# Altium footprint library XHCL.PcbLib: 31 footprints (part 2 of 2)
Each footprint in its own frame and in the unit in brackets; x right, y up, seen from the top. Pads: shape width x height; smd on the part's side, far side on the other; paste and mask are expansions set on the pad; w line width, h text height; cw(c..) or ccw(c..) is an arc to the next point about the centre after c.
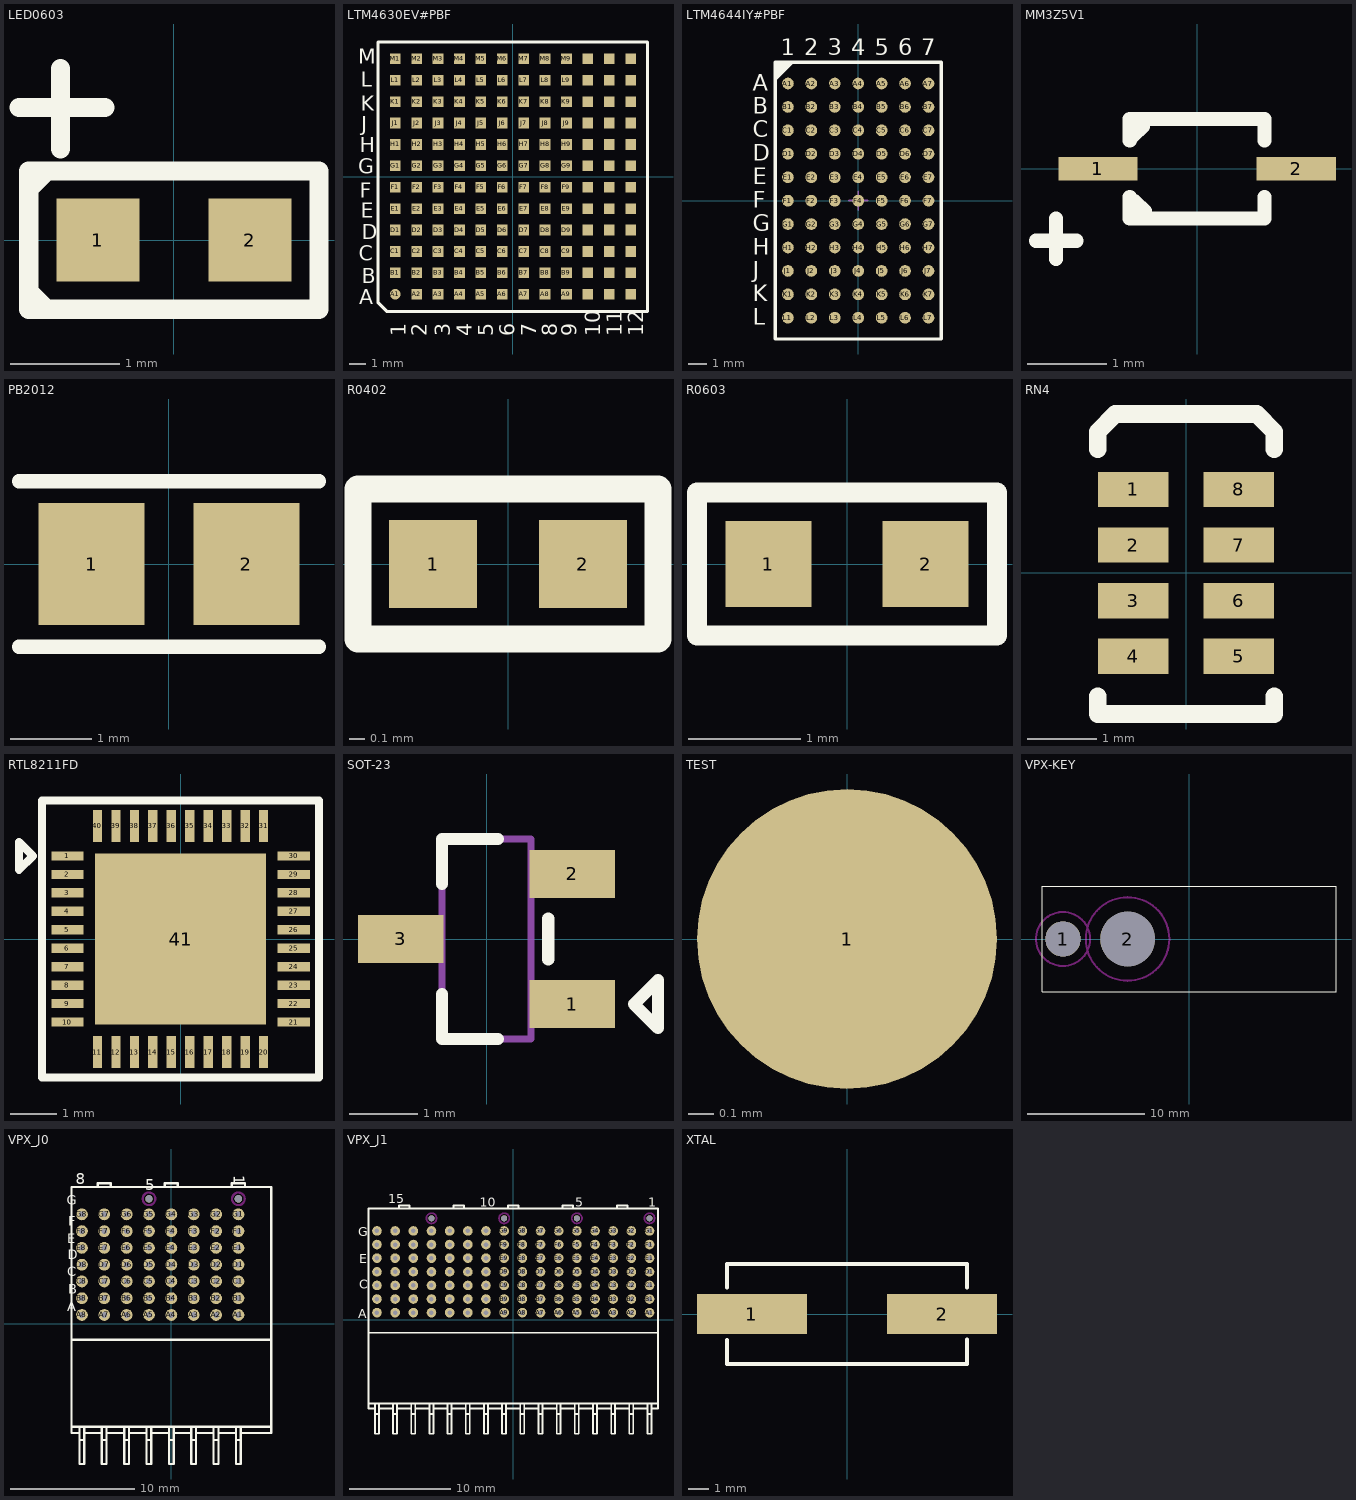
[diagram p1: the footprints below, top view; thin cyan lines are the x and y axes]

## LED0603 [mil]
height 43.31
pads (2):
  rect 30x30 smd: 1(-27.5,0) 2(27.5,0)
Top Overlay:
  lines w7: -56,48 -25,48 ; -52.5,-18.5 -46.49,-24.51 ; -52.01,18.99 -46,25 ; -41,33 -41,62 ; -52.5,-25 52.5,-25 52.5,25 -52.5,25 -52.5,-25

## LTM4630EV#PBF [mm]
height 1.1
pads (144):
  round 0.635 smd: A1(-6.985,-6.985)
  rect 0.635x0.635 smd: A2(-5.715,-6.985) A3(-4.445,-6.985) A4(-3.175,-6.985) A5(-1.905,-6.985) A6(-0.635,-6.985) A7(0.635,-6.985) A8(1.905,-6.985) A9(3.175,-6.985) A10(4.445,-6.985) A11(5.715,-6.985) A12(6.985,-6.985) B1(-6.985,-5.715) B2(-5.715,-5.715) B3(-4.445,-5.715) B4(-3.175,-5.715) B5(-1.905,-5.715) B6(-0.635,-5.715) B7(0.635,-5.715) B8(1.905,-5.715) B9(3.175,-5.715) B10(4.445,-5.715) B11(5.715,-5.715) B12(6.985,-5.715) C1(-6.985,-4.445) C2(-5.715,-4.445) C3(-4.445,-4.445) C4(-3.175,-4.445) C5(-1.905,-4.445) C6(-0.635,-4.445) C7(0.635,-4.445) C8(1.905,-4.445) C9(3.175,-4.445) C10(4.445,-4.445) C11(5.715,-4.445) C12(6.985,-4.445) D1(-6.985,-3.175) D2(-5.715,-3.175) D3(-4.445,-3.175) D4(-3.175,-3.175) D5(-1.905,-3.175) D6(-0.635,-3.175) D7(0.635,-3.175) D8(1.905,-3.175) D9(3.175,-3.175) D10(4.445,-3.175) D11(5.715,-3.175) D12(6.985,-3.175) E1(-6.985,-1.905) E2(-5.715,-1.905) E3(-4.445,-1.905) E4(-3.175,-1.905) E5(-1.905,-1.905) E6(-0.635,-1.905) E7(0.635,-1.905) E8(1.905,-1.905) E9(3.175,-1.905) E10(4.445,-1.905) E11(5.715,-1.905) E12(6.985,-1.905) F1(-6.985,-0.635) F2(-5.715,-0.635) F3(-4.445,-0.635) F4(-3.175,-0.635) F5(-1.905,-0.635) F6(-0.635,-0.635) F7(0.635,-0.635) F8(1.905,-0.635) F9(3.175,-0.635) F10(4.445,-0.635) F11(5.715,-0.635) F12(6.985,-0.635) G1(-6.985,0.635) G2(-5.715,0.635) G3(-4.445,0.635) G4(-3.175,0.635) G5(-1.905,0.635) G6(-0.635,0.635) G7(0.635,0.635) G8(1.905,0.635) G9(3.175,0.635) G10(4.445,0.635) G11(5.715,0.635) G12(6.985,0.635) H1(-6.985,1.905) H2(-5.715,1.905) H3(-4.445,1.905) H4(-3.175,1.905) H5(-1.905,1.905) H6(-0.635,1.905) H7(0.635,1.905) H8(1.905,1.905) H9(3.175,1.905) H10(4.445,1.905) H11(5.715,1.905) H12(6.985,1.905) J1(-6.985,3.175) J2(-5.715,3.175) J3(-4.445,3.175) J4(-3.175,3.175) J5(-1.905,3.175) J6(-0.635,3.175) J7(0.635,3.175) J8(1.905,3.175) J9(3.175,3.175) J10(4.445,3.175) J11(5.715,3.175) J12(6.985,3.175) K1(-6.985,4.445) K2(-5.715,4.445) K3(-4.445,4.445) K4(-3.175,4.445) K5(-1.905,4.445) K6(-0.635,4.445) K7(0.635,4.445) K8(1.905,4.445) K9(3.175,4.445) K10(4.445,4.445) K11(5.715,4.445) K12(6.985,4.445) L1(-6.985,5.715) L2(-5.715,5.715) L3(-4.445,5.715) L4(-3.175,5.715) L5(-1.905,5.715) L6(-0.635,5.715) L7(0.635,5.715) L8(1.905,5.715) L9(3.175,5.715) L10(4.445,5.715) L11(5.715,5.715) L12(6.985,5.715) M1(-6.985,6.985) M2(-5.715,6.985) M3(-4.445,6.985) M4(-3.175,6.985) M5(-1.905,6.985) M6(-0.635,6.985) M7(0.635,6.985) M8(1.905,6.985) M9(3.175,6.985) M10(4.445,6.985) M11(5.715,6.985) M12(6.985,6.985)
Top Overlay:
  lines w0.178: -8,-7.493 -7.493,-8 8,-8 8,8 -8,8 -8,-7.493
  text "12" at 7.722,-9.474 h0.89
  text "11" at 6.452,-9.474 h0.89
  text "10" at 5.182,-9.474 h0.89
  text "9" at 3.785,-9.474 h0.89
  text "8" at 2.642,-9.474 h0.89
  text "7" at 1.372,-9.474 h0.89
  text "6" at 0.102,-9.474 h0.89
  text "1" at -6.375,-9.474 h0.89
  text "2" at -5.105,-9.474 h0.89
  text "5" at -1.168,-9.474 h0.89
  text "3" at -3.708,-9.474 h0.89
  text "4" at -2.438,-9.474 h0.89
  text "D" at -8.966,-3.734 h0.89
  text "M" at -9.195,6.706 h0.89
  text "C" at -9.144,-5.004 h0.89
  text "A" at -9.119,-7.588 h0.89
  text "B" at -8.966,-6.325 h0.89
  text "F" at -9.093,-1.245 h0.89
  text "E" at -9.017,-2.438 h0.89
  text "G" at -9.195,0.178 h0.89
  text "H" at -9.093,1.448 h0.89
  text "K" at -9.017,3.912 h0.89
  text "J" at -8.992,2.692 h0.89
  text "L" at -9.017,5.334 h0.89

## LTM4644IY#PBF [mm]
height 5.21
pads (77):
  round 0.635 smd: A1(-3.81,6.35) A2(-2.54,6.35) A3(-1.27,6.35) A4(0,6.35) A5(1.27,6.35) A6(2.54,6.35) A7(3.81,6.35) B1(-3.81,5.08) B2(-2.54,5.08) B3(-1.27,5.08) B4(0,5.08) B5(1.27,5.08) B6(2.54,5.08) B7(3.81,5.08) C1(-3.81,3.81) C2(-2.54,3.81) C3(-1.27,3.81) C4(0,3.81) C5(1.27,3.81) C6(2.54,3.81) C7(3.81,3.81) D1(-3.81,2.54) D2(-2.54,2.54) D3(-1.27,2.54) D4(0,2.54) D5(1.27,2.54) D6(2.54,2.54) D7(3.81,2.54) E1(-3.81,1.27) E2(-2.54,1.27) E3(-1.27,1.27) E4(0,1.27) E5(1.27,1.27) E6(2.54,1.27) E7(3.81,1.27) F1(-3.81,0) F2(-2.54,0) F3(-1.27,0) F4(0,0) F5(1.27,0) F6(2.54,0) F7(3.81,0) G1(-3.81,-1.27) G2(-2.54,-1.27) G3(-1.27,-1.27) G4(0,-1.27) G5(1.27,-1.27) G6(2.54,-1.27) G7(3.81,-1.27) H1(-3.81,-2.54) H2(-2.54,-2.54) H3(-1.27,-2.54) H4(0,-2.54) H5(1.27,-2.54) H6(2.54,-2.54) H7(3.81,-2.54) J1(-3.81,-3.81) J2(-2.54,-3.81) J3(-1.27,-3.81) J4(0,-3.81) J5(1.27,-3.81) J6(2.54,-3.81) J7(3.81,-3.81) K1(-3.81,-5.08) K2(-2.54,-5.08) K3(-1.27,-5.08) K4(0,-5.08) K5(1.27,-5.08) K6(2.54,-5.08) K7(3.81,-5.08) L1(-3.81,-6.35) L2(-2.54,-6.35) L3(-1.27,-6.35) L4(0,-6.35) L5(1.27,-6.35) L6(2.54,-6.35) L7(3.81,-6.35)
Top Overlay:
  region: -3.582,7.5 -4.5,6.582 -4.5,7.5
  lines w0.178: -4.5,6.582 -3.582,7.5 ; -4.5,-7.5 -4.5,7.5 4.5,7.5 4.5,-7.5 -4.5,-7.5
  text "A" at -5.715,5.969 h0.89
  text "B" at -5.715,4.699 h0.89
  text "C" at -5.715,3.429 h0.89
  text "D" at -5.715,2.159 h0.89
  text "E" at -5.715,0.889 h0.89
  text "F" at -5.715,-0.381 h0.89
  text "G" at -5.715,-1.651 h0.89
  text "H" at -5.715,-2.921 h0.89
  text "J" at -5.715,-4.191 h0.89
  text "K" at -5.715,-5.461 h0.89
  text "L" at -5.715,-6.731 h0.89
  text "1" at -4.191,7.874 h0.89
  text "2" at -2.921,7.874 h0.89
  text "3" at -1.651,7.874 h0.89
  text "4" at -0.381,7.874 h0.89
  text "5" at 0.889,7.874 h0.89
  text "6" at 2.159,7.874 h0.89
  text "7" at 3.429,7.874 h0.89
Mechanical 13:
  lines w0.1: -4.5,-7.5 -4.5,7.5 4.5,7.5 4.5,-7.5 -4.5,-7.5
Mechanical 15:
  lines w0.1: -0.5,0 0.5,0 ; 0,-0.5 0,0.5
3D body: height 5.21, standoff 0.7, extent -4.5,-7.5 4.5,7.5

## MM3Z5V1 [mm]
height 6
pads (2):
  rect 1x0.3 smd: 1(-1.25,0) 2(1.25,0)
Top Overlay:
  lines w0.178: -2.031,-0.907 -1.523,-0.907 ; -1.777,-1.135 -1.777,-0.627 ; -0.85,-0.356 -0.85,-0.625 0.85,-0.625 0.85,-0.356 ; -0.85,0.356 -0.85,0.625 0.85,0.625 0.85,0.356 ; -0.813,0.406 -0.686,0.533 ; -0.787,-0.406 -0.66,-0.533

## PB2012 [mm]
height 6
pads (2):
  rect 1.3x1.5 smd: 1(-0.95,0) 2(0.95,0)
Top Overlay:
  lines w0.178: -1.841,-1.019 1.842,-1.019 ; -1.841,1.019 1.842,1.019

## R0402 [mil]
pads (2):
  rect 23x23 smd: 1(-19.68,0) 2(19.68,0)
Top Overlay:
  lines w7: -39.37,-19.68 39.37,-19.68 39.37,19.68 -39.37,19.68 -39.37,-19.68

## R0603 [mil]
height 236.22
pads (2):
  rect 30x30 smd: 1(-27.5,0) 2(27.5,0)
Top Overlay:
  lines w7: -52.5,-25 -52.5,25 52.5,25 52.5,-25 -52.5,-25

## RN4 [mil]
height 236.22
pads (8):
  rect 40x20 smd mask+2: 1(-30,47.25) 2(-30,15.75) 3(-30,-15.75) 4(-30,-47.25) 5(30,-47.25) 6(30,-15.75) 7(30,15.75) 8(30,47.25)
Top Overlay:
  lines w10: -50,-70 -50,-80 50,-80 50,-70 ; -50,70 -50,80 -40,90 40,90 50,80 50,70

## RTL8211FD [mm]
height 6
pads (41):
  rect 0.7x0.2 smd mask+0.051: 1(-2.45,1.8) 2(-2.45,1.4) 3(-2.45,1) 4(-2.45,0.6) 5(-2.45,0.2) 6(-2.45,-0.2) 7(-2.45,-0.6) 8(-2.45,-1) 9(-2.45,-1.4) 10(-2.45,-1.8) 21(2.45,-1.8) 22(2.45,-1.4) 23(2.45,-1) 24(2.45,-0.6) 25(2.45,-0.2) 26(2.45,0.2) 27(2.45,0.6) 28(2.45,1) 29(2.45,1.4) 30(2.45,1.8)
  rect 0.2x0.7 smd mask+0.051: 11(-1.8,-2.45) 12(-1.4,-2.45) 13(-1,-2.45) 14(-0.6,-2.45) 15(-0.2,-2.45) 16(0.2,-2.45) 17(0.6,-2.45) 18(1,-2.45) 19(1.4,-2.45) 20(1.8,-2.45) 31(1.8,2.45) 32(1.4,2.45) 33(1,2.45) 34(0.6,2.45) 35(0.2,2.45) 36(-0.2,2.45) 37(-0.6,2.45) 38(-1,2.45) 39(-1.4,2.45) 40(-1.8,2.45)
  rect 3.7x3.7 smd mask+0.051: 41(0,0)
Top Overlay:
  lines w0.178: -3.5,1.5 -3.5,2.1 -3.2,1.8 -3.5,1.5 ; -3,-3 -3,3 3,3 3,-3 -3,-3

## SOT-23 [mm]
height 1.1
pads (3):
  rect 1.25x0.7 smd: 1(1.25,-0.95) 2(1.25,0.95) 3(-1.25,0)
Top Overlay:
  lines w0.178: -0.65,-0.8 -0.65,-1.46 0.165,-1.46 ; 0.165,1.46 -0.65,1.46 ; 0.9,-0.3 0.9,0.3 ; -0.65,0.8 -0.65,1.46 ; -0.65,0.8 -0.65,1.46 ; -0.65,0.8 -0.65,1.46 ; 2.15,-0.95 2.5,-1.3 2.5,-0.6 2.15,-0.95
Mechanical 13:
  lines w0.1: -0.65,-1.46 -0.65,1.46 ; -0.65,-1.46 0.65,-1.46 ; -0.65,-1.46 0.65,-1.46 ; -0.65,-1.46 -0.65,1.46 ; -0.65,-1.46 0.65,-1.46 ; -0.65,-1.46 -0.65,1.46 ; -0.65,1.46 0.65,1.46 ; -0.65,1.46 0.65,1.46 ; -0.65,1.46 0.65,1.46 ; 0.65,-1.46 0.65,1.46 ; 0.65,-1.46 0.65,1.46 ; 0.65,-1.46 0.65,1.46
3D body "SOT-23.step": height 1.3, standoff 0, extent -1.5,-1.5 1.5,1.5

## TEST [mm]
height 1.1
pads (1):
  round 1.2 smd: 1(0,0)

## VPX-KEY [mm] "VPX-KEY"
height 6
pads (2):
  round 3 hole 3 unplated: 1(-10.75,0)
  round 4.65 hole 4.65 unplated: 2(-5.25,0)
Top Overlay:
  lines w0.025: -12.5,-4.5 12.5,-4.5 12.5,4.5 -12.5,4.5 -12.5,-4.5
Keep-Out Layer:
  circle w0.178: c-10.75,0 r2.3
  circle w0.178: c-5.25,0 r3.556

## VPX_J0 [mm] "VPX-P0"
height 6
pads (58):
  round 0.599 hole 0.599 unplated: " "(-1.801,10.044) " "(5.4,10.044)
  round 0.95 hole 0.45: A1(5.4,0.695) A2(3.599,0.695) A3(1.801,0.695) A4(0,0.695) A5(-1.801,0.695) A6(-3.599,0.695) A7(-5.4,0.695) A8(-7.201,0.695) B1(5.4,2.046) B2(3.599,2.046) B3(1.801,2.046) B4(0,2.046) B5(-1.801,2.046) B6(-3.599,2.046) B7(-5.4,2.046) B8(-7.201,2.046) C1(5.4,3.395) C2(3.599,3.395) C3(1.801,3.395) C4(0,3.395) C5(-1.801,3.395) C6(-3.599,3.395) C7(-5.4,3.395) C8(-7.201,3.395) D1(5.4,4.744) D2(3.599,4.744) D3(1.801,4.744) D4(0,4.744) D5(-1.801,4.744) D6(-3.599,4.744) D7(-5.4,4.744) D8(-7.201,4.744) E1(5.4,6.095) E2(3.599,6.095) E3(1.801,6.095) E4(0,6.095) E5(-1.801,6.095) E6(-3.599,6.095) E7(-5.4,6.095) E8(-7.201,6.095) F1(5.4,7.446) F2(3.599,7.446) F3(1.801,7.446) F4(0,7.446) F5(-1.801,7.446) F6(-3.599,7.446) F7(-5.4,7.446) F8(-7.201,7.446) G1(5.4,8.795) G2(3.599,8.795) G3(1.801,8.795) G4(0,8.795) G5(-1.801,8.795) G6(-3.599,8.795) G7(-5.4,8.795) G8(-7.201,8.795)
Top Overlay:
  lines w0.178: -8.039,-8.305 8.039,-8.305 ; -8.001,-1.304 8.001,-1.304 ; -7.399,-9.366 -7.01,-9.366 ; -7.399,-8.805 -8.039,-8.805 -8.039,11.005 8.039,11.005 8.039,-8.805 5.591,-8.805 ; -7.399,-8.305 -7.399,-11.304 -7.01,-11.304 -7.01,-8.305 ; -7.01,-8.805 -5.601,-8.805 ; -5.931,11.005 -5.931,11.304 -4.879,11.304 -4.879,11.005 ; -5.601,-9.366 -5.21,-9.366 ; -5.601,-8.305 -5.601,-11.304 -5.21,-11.304 -5.21,-8.305 ; -5.21,-8.805 -3.8,-8.805 ; -3.8,-9.366 -3.409,-9.366 ; -3.8,-8.305 -3.8,-11.304 -3.409,-11.304 -3.409,-8.305 ; -3.409,-8.805 -1.999,-8.805 ; -1.999,-9.366 -1.61,-9.366 ; -1.999,-8.305 -1.999,-11.304 -1.61,-11.304 -1.61,-8.305 ; -1.61,-8.805 -0.201,-8.805 ; -0.531,11.005 -0.531,11.304 0.521,11.304 0.521,11.005 ; -0.201,-9.366 0.191,-9.366 ; -0.201,-8.305 -0.201,-11.304 0.191,-11.304 0.191,-8.305 ; 0.191,-8.805 1.6,-8.805 ; 1.6,-9.366 1.991,-9.366 ; 1.6,-8.305 1.6,-11.304 1.991,-11.304 1.991,-8.305 ; 1.991,-8.805 3.401,-8.805 ; 3.401,-9.366 3.79,-9.366 ; 3.401,-8.305 3.401,-11.304 3.79,-11.304 3.79,-8.305 ; 3.79,-8.805 5.199,-8.805 ; 4.869,11.005 4.869,11.304 5.921,11.304 5.921,11.005 ; 5.199,-9.366 5.591,-9.366 ; 5.199,-8.305 5.199,-11.304 5.591,-11.304 5.591,-8.305
  text "1" at 5.011,11.96 h0.89
  text "G" at -8.418,9.585 h0.76
  text "F" at -8.301,7.881 h0.76
  text "8" at -7.681,11.236 h0.89
  text "5" at -2.103,10.752 h0.89
  text "E" at -8.367,6.486 h0.76
  text "D" at -8.341,5.191 h0.76
  text "C" at -8.392,3.819 h0.76
  text "B" at -8.316,2.397 h0.76
  text "A" at -8.392,0.974 h0.76
Keep-Out Layer:
  circle w0.178: c5.4,10.044 r0.508
  circle w0.178: c-1.801,10.044 r0.508

## VPX_J1 [mm] "VPX-P1"
height 6
pads (116):
  round 0.599 hole 0.599 unplated: " "(-8.1,10.044) " "(-0.899,10.044) " "(6.299,10.044) " "(13.5,10.044)
  round 0.95 hole 0.45: A1(13.5,0.695) A2(11.699,0.695) A3(9.901,0.695) A4(8.1,0.695) A5(6.299,0.695) A6(4.501,0.695) A7(2.7,0.695) A8(0.899,0.695) A9(-0.899,0.695) A10(-2.7,0.695) A11(-4.501,0.695) A12(-6.299,0.695) A13(-8.1,0.695) A14(-9.901,0.695) A15(-11.699,0.695) A16(-13.5,0.695) B1(13.5,2.046) B2(11.699,2.046) B3(9.901,2.046) B4(8.1,2.046) B5(6.299,2.046) B6(4.501,2.046) B7(2.7,2.046) B8(0.899,2.046) B9(-0.899,2.046) B10(-2.7,2.046) B11(-4.501,2.046) B12(-6.299,2.046) B13(-8.1,2.046) B14(-9.901,2.046) B15(-11.699,2.046) B16(-13.5,2.046) C1(13.5,3.395) C2(11.699,3.395) C3(9.901,3.395) C4(8.1,3.395) C5(6.299,3.395) C6(4.501,3.395) C7(2.7,3.395) C8(0.899,3.395) C9(-0.899,3.395) C10(-2.7,3.395) C11(-4.501,3.395) C12(-6.299,3.395) C13(-8.1,3.395) C14(-9.901,3.395) C15(-11.699,3.395) C16(-13.5,3.395) D1(13.5,4.744) D2(11.699,4.744) D3(9.901,4.744) D4(8.1,4.744) D5(6.299,4.744) D6(4.501,4.744) D7(2.7,4.744) D8(0.899,4.744) D9(-0.899,4.744) D10(-2.7,4.744) D11(-4.501,4.744) D12(-6.299,4.744) D13(-8.1,4.744) D14(-9.901,4.744) D15(-11.699,4.744) D16(-13.5,4.744) E1(13.5,6.095) E2(11.699,6.095) E3(9.901,6.095) E4(8.1,6.095) E5(6.299,6.095) E6(4.501,6.095) E7(2.7,6.095) E8(0.899,6.095) E9(-0.899,6.095) E10(-2.7,6.095) E11(-4.501,6.095) E12(-6.299,6.095) E13(-8.1,6.095) E14(-9.901,6.095) E15(-11.699,6.095) E16(-13.5,6.095) F1(13.5,7.444) F2(11.699,7.444) F3(9.901,7.444) F4(8.1,7.444) F5(6.299,7.444) F6(4.501,7.444) F7(2.7,7.444) F8(0.899,7.444) F9(-0.899,7.444) F10(-2.7,7.444) F11(-4.501,7.444) F12(-6.299,7.444) F13(-8.1,7.444) F14(-9.901,7.444) F15(-11.699,7.444) F16(-13.5,7.444) G1(13.5,8.795) G2(11.699,8.795) G3(9.901,8.795) G4(8.1,8.795) G5(6.299,8.795) G6(4.501,8.795) G7(2.7,8.795) G8(0.899,8.795) G9(-0.899,8.795) G10(-2.7,8.795) G11(-4.501,8.795) G12(-6.299,8.795) G13(-8.1,8.795) G14(-9.901,8.795) G15(-11.699,8.795) G16(-13.5,8.795)
Top Overlay:
  lines w0.178: -14.341,-8.305 14.341,-8.305 ; -14.201,-1.304 14.3,-1.304 ; -13.701,-9.356 -13.31,-9.356 ; -13.701,-8.805 -14.341,-8.805 ; -13.701,-8.305 -13.701,-11.304 -13.31,-11.304 -13.31,-8.305 ; -13.31,-8.805 -11.9,-8.805 ; -11.9,-9.356 -11.509,-9.356 ; -11.9,-8.305 -11.9,-11.304 -11.509,-11.304 -11.509,-8.305 ; -11.509,-8.805 -10.099,-8.805 ; -11.331,11.005 -11.331,11.304 -10.279,11.304 -10.279,11.005 ; -10.099,-9.356 -9.71,-9.356 ; -10.099,-8.305 -10.099,-11.304 -9.71,-11.304 -9.71,-8.305 ; -9.71,-8.805 -8.301,-8.805 ; -8.301,-9.356 -7.91,-9.356 ; -8.301,-8.305 -8.301,-11.304 -7.91,-11.304 -7.91,-8.305 ; -7.91,-8.805 -6.5,-8.805 ; -6.5,-9.356 -6.111,-9.356 ; -6.5,-8.305 -6.5,-11.304 -6.111,-11.304 -6.111,-8.305 ; -6.111,-8.805 -4.699,-8.805 ; -5.931,11.005 -5.931,11.304 -4.879,11.304 -4.879,11.005 ; -4.699,-9.356 -4.31,-9.356 ; -4.699,-8.305 -4.699,-11.304 -4.31,-11.304 -4.31,-8.305 ; -4.31,-8.805 -2.901,-8.805 ; -2.901,-9.356 -2.51,-9.356 ; -2.901,-8.305 -2.901,-11.304 -2.51,-11.304 -2.51,-8.305 ; -2.51,-8.805 -1.1,-8.805 ; -1.1,-9.356 -0.709,-9.356 ; -1.1,-8.305 -1.1,-11.304 -0.709,-11.304 -0.709,-8.305 ; -0.709,-8.805 0.701,-8.805 ; -0.531,11.005 -0.531,11.304 0.521,11.304 0.521,11.005 ; 0.701,-9.356 1.09,-9.356 ; 0.701,-8.305 0.701,-11.304 1.09,-11.304 1.09,-8.305 ; 1.09,-8.805 2.499,-8.805 ; 2.499,-9.356 2.89,-9.356 ; 2.499,-8.305 2.499,-11.304 2.89,-11.304 2.89,-8.305 ; 2.89,-8.805 4.3,-8.805 ; 4.3,-9.356 4.691,-9.356 ; 4.3,-8.305 4.3,-11.304 4.691,-11.304 4.691,-8.305 ; 4.691,-8.805 6.101,-8.805 ; 4.869,11.005 4.869,11.304 5.921,11.304 5.921,11.005 ; 6.101,-9.356 6.49,-9.356 ; 6.101,-8.305 6.101,-11.304 6.49,-11.304 6.49,-8.305 ; 6.49,-8.805 7.899,-8.805 ; 7.899,-9.356 8.291,-9.356 ; 7.899,-8.305 7.899,-11.304 8.291,-11.304 8.291,-8.305 ; 8.291,-8.805 9.7,-8.805 ; 9.7,-9.356 10.089,-9.356 ; 9.7,-8.305 9.7,-11.304 10.089,-11.304 10.089,-8.305 ; 10.089,-8.805 11.501,-8.805 ; 10.269,11.005 10.269,11.304 11.321,11.304 11.321,11.005 ; 11.501,-9.356 11.89,-9.356 ; 11.501,-8.305 11.501,-11.304 11.89,-11.304 11.89,-8.305 ; 11.89,-8.805 13.299,-8.805 ; 13.299,-9.356 13.691,-9.356 ; 13.299,-8.305 13.299,-11.304 13.691,-11.304 13.691,-8.305 ; 13.691,-8.805 14.341,-8.805 ; -14.341,-8.805 -14.341,11.005 ; -14.341,-8.805 -14.341,11.005 ; -14.341,11.005 14.341,11.005 ; 14.341,-8.805 14.341,11.005 ; 14.341,-8.805 14.341,11.005
  text "G" at -15.38,8.264 h0.89
  text "10" at -3.34,11.21 h0.89
  text "5" at 6.159,11.185 h0.89
  text "1" at 13.399,11.185 h0.89
  text "C" at -15.278,3.082 h0.89
  text "E" at -15.278,5.572 h0.89
  text "A" at -15.354,0.136 h0.89
  text "15" at -12.362,11.539 h0.89
Keep-Out Layer:
  circle w0.178: c13.5,10.044 r0.508
  circle w0.178: c6.299,10.044 r0.508
  circle w0.178: c-0.899,10.044 r0.508
  circle w0.178: c-8.1,10.044 r0.508

## XTAL [mm]
height 1.1
pads (2):
  rect 5.5x2 smd: 1(-4.75,0) 2(4.75,0)
Top Overlay:
  lines w0.178: -6,-1.29 -6,-2.5 6,-2.5 6,-1.276 ; -6,1.315 -6,2.5 6,2.5 6,1.315